# Altium footprint library M202A.PcbLib: 3 footprints
Each footprint in its own frame and in the unit in brackets; x right, y up, seen from the top. Pads: shape width x height; smd on the part's side, far side on the other; paste and mask are expansions set on the pad; w line width, h text height; cw(c..) or ccw(c..) is an arc to the next point about the centre after c.
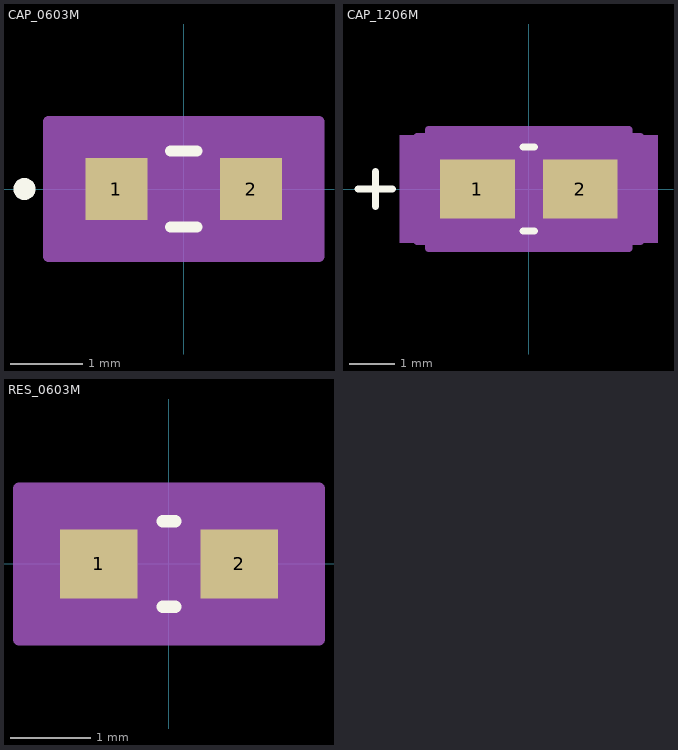
[diagram p0: the footprints below, top view; thin cyan lines are the x and y axes]

## CAP_0603M [mil]
pads (2):
  rect 33.81x33.5 smd paste+0 mask+0: 1(-36.59,0) 2(36.59,0)
Top Overlay:
  circle w6: c-86.5,0 r3
  lines w6: -7.21,-20.75 7.21,-20.75 ; -7.21,20.75 7.21,20.75
Mechanical 5:
  region: 68.5,-31.75 -68.5,-31.75 -68.5,31.75 68.5,31.75
Mechanical 13:
  circle w0: c-31.59,0 r3
  lines w1: -31.5,-15.75 -31.5,15.75 ; -31.5,-15.75 -19.68,-15.75 -19.68,15.75 -31.5,15.75 ; -31.5,-15.75 31.5,-15.75 ; -31.5,-15.75 -31.5,15.75 ; -31.5,15.75 31.5,15.75 ; 31.5,-15.75 19.68,-15.75 19.68,15.75 31.5,15.75 ; 31.5,-15.75 31.5,15.75 ; 31.5,-15.75 31.5,15.75
Mechanical 15:
  region: 73.5,-36.75 -73.5,-36.75 -73.5,36.75 73.5,36.75
  lines w6: -73.5,-36.75 -73.5,36.75 73.5,36.75 73.5,-36.75 -73.5,-36.75
3D body "CAP_CL10_SAM.step": height 35.43, standoff 0, extent -31.5,-15.75 31.5,15.75

## CAP_1206M [mm]
pads (2):
  rect 1.646x1.3 smd paste+0 mask+0: 1(-1.131,0) 2(1.131,0)
Top Overlay:
  lines w0.152: -3.759,0 -2.997,0 ; -3.378,-0.381 -3.378,0.381 ; -0.124,-0.927 0.124,-0.927 ; -0.124,0.927 0.124,0.927
Mechanical 5:
  region: 2.843,-1.181 -2.843,-1.181 -2.843,1.181 2.843,1.181
Mechanical 13:
  lines w0.025: -3.759,0 -2.997,0 ; -3.378,-0.381 -3.378,0.381 ; -1.7,-0.8 -1.7,0.8 1.7,0.8 1.7,-0.8 -1.7,-0.8
Mechanical 15:
  region: -2.208,-1.158 -2.462,-1.158 -2.462,1.158 -2.208,1.158 -2.208,1.308 2.208,1.308 2.208,1.158 2.462,1.158 2.462,-1.158 2.208,-1.158 2.208,-1.308 -2.208,-1.308
  lines w0.152: -2.462,-1.158 -2.208,-1.158 -2.208,-1.308 2.208,-1.308 2.208,-1.158 2.462,-1.158 2.462,1.158 2.208,1.158 2.208,1.308 -2.208,1.308 -2.208,1.158 -2.462,1.158 -2.462,-1.158
3D body: height 0.25, standoff 0, extent 0,0 0.254,0.254

## RES_0603M [mil]
pads (2):
  rect 38x34 smd paste+0 mask+0: 1(-34.5,0) 2(34.5,0)
Top Overlay:
  lines w6: -3.03,-21 3.03,-21 ; -3.03,21 3.03,21
Mechanical 5:
  region: 68.5,-32 -68.5,-32 -68.5,32 68.5,32
Mechanical 13:
  lines w1: -31.5,-16 -31.5,16 ; -31.5,-16 31.5,-16 ; -31.5,-16 -15.5,-16 -15.5,16 -31.5,16 ; -31.5,-16 -31.5,16 ; -31.5,16 31.5,16 ; 31.5,-16 31.5,16 ; 31.5,-16 31.5,16 ; 31.5,-16 15.5,-16 15.5,16 31.5,16
Mechanical 15:
  region: 73.5,-37 -73.5,-37 -73.5,37 73.5,37
  lines w6: -73.5,-37 73.5,-37 73.5,37 -73.5,37 -73.5,-37
3D body "RC0603N_YAG.step": height 27.99, standoff 0, extent -31.5,-15.98 31.5,15.98